# Altium footprint library Leadless.pcbLib: 37 footprints (part 2 of 3)
Each footprint in its own frame and in the unit in brackets; x right, y up, seen from the top. Pads: shape width x height; smd on the part's side, far side on the other; paste and mask are expansions set on the pad; w line width, h text height; cw(c..) or ccw(c..) is an arc to the next point about the centre after c.
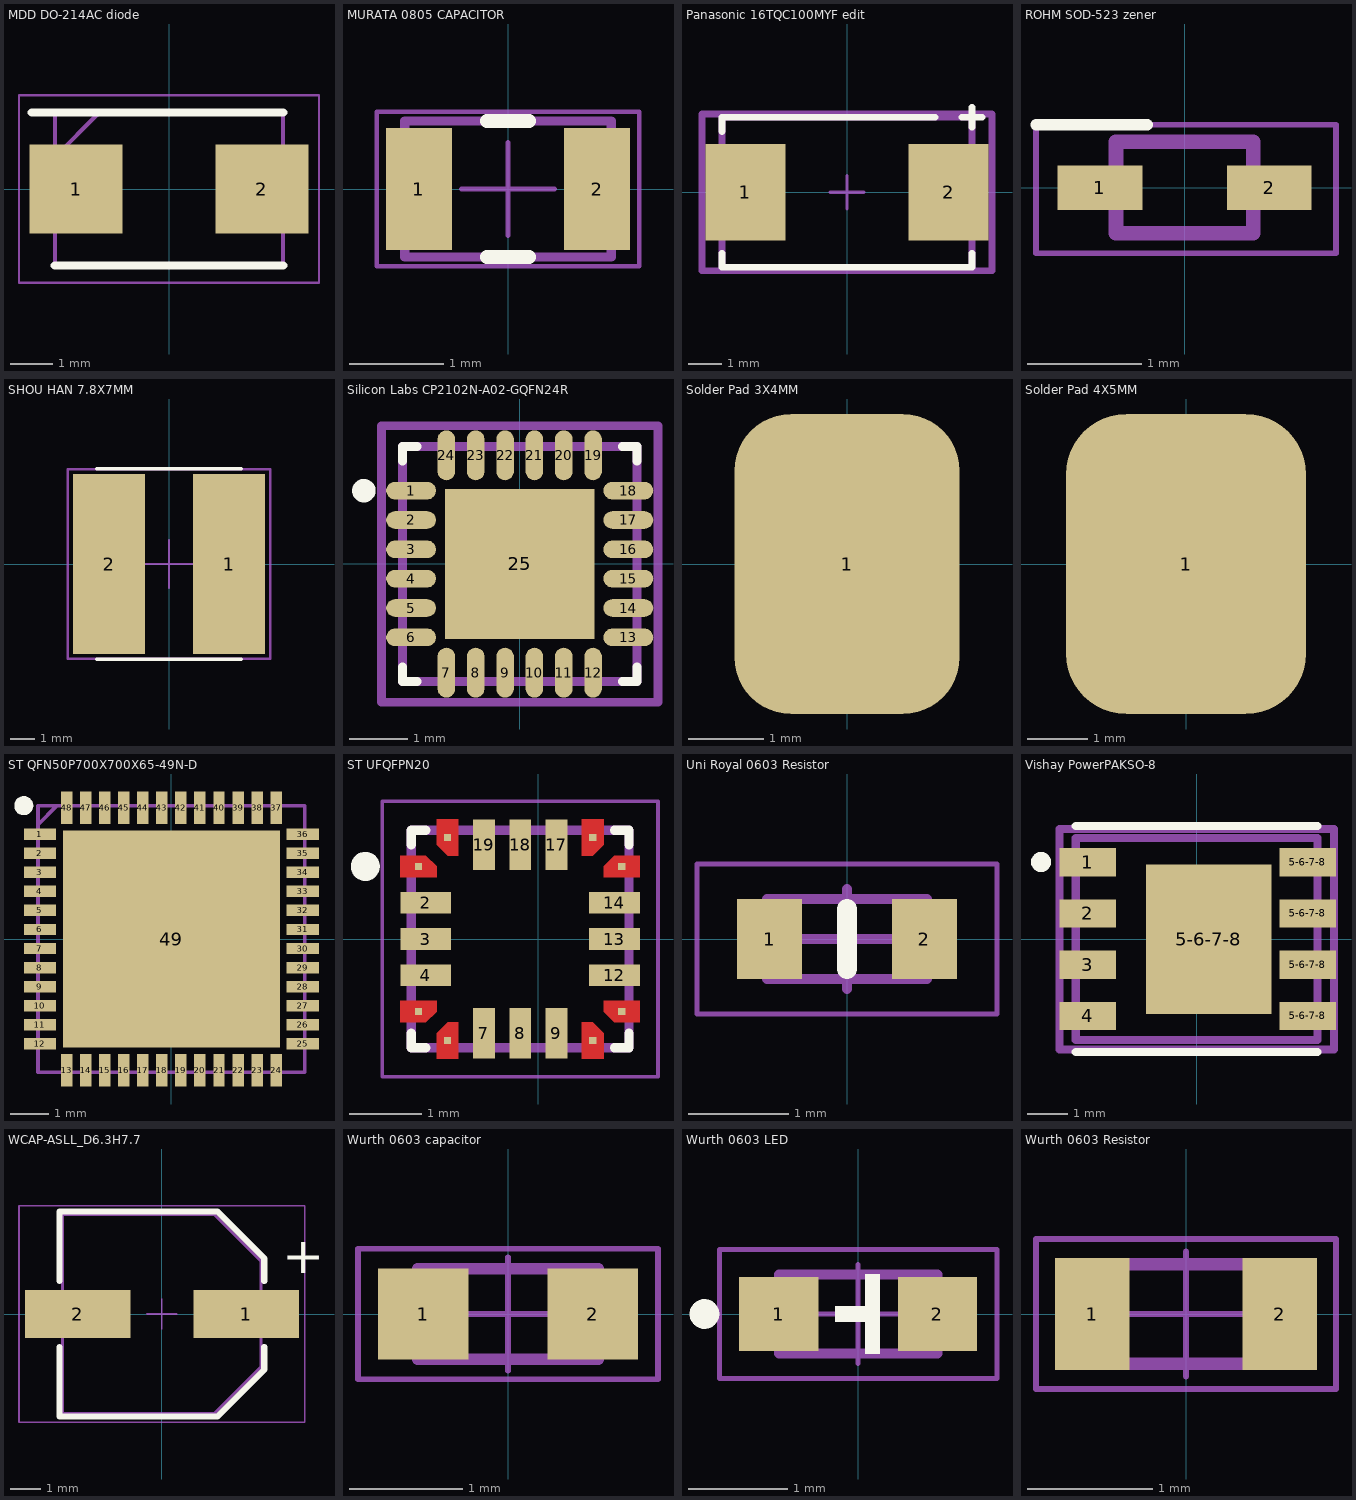
[diagram p1: the footprints below, top view; thin cyan lines are the x and y axes]

## MDD DO-214AC diode [mm]
pads (2):
  rect 2.2x2.1 smd: 1(-2.2,0) 2(2.2,0)
Top Overlay:
  lines w0.2: -3.25,1.81 2.7,1.81 ; -2.7,-1.81 2.7,-1.81
Mechanical 15:
  lines w0.1: -2.7,0.76 -1.65,1.81 ; -2.7,-1.81 -2.7,1.81 2.7,1.81 2.7,-1.81 -2.7,-1.81
Bottom Assembly:
  lines w0.05: -3.55,-2.22 -3.55,2.22 3.55,2.22 3.55,-2.22 -3.55,-2.22
3D body "SS34.stp": height 2.44, standoff 0, extent -2.7,-1.81 2.7,1.81

## MURATA 0805 CAPACITOR [mm]
pads (2):
  rect 0.7x1.3 smd paste+0 mask+0: 1(-0.95,0) 2(0.95,0)
Top Overlay:
  lines w0.15: -0.225,-0.725 0.225,-0.725 ; -0.225,0.725 0.225,0.725
Top Courtyard:
  lines w0.05: -1.4,-0.825 -1.4,0.825 1.4,0.825 1.4,-0.825 -1.4,-0.825
Top Component Center:
  lines w0.05: -0.5,0 0.5,0 ; 0,-0.5 0,0.5
Top Component Outline:
  lines w0.1: -1.1,-0.725 1.1,-0.725 1.1,0.725 -1.1,0.725 -1.1,-0.725
Top Designator (Mech14):
  text ".Designator" at -2.2,-0.283 h0.5
3D body "Cap_Murata_GRM21BC71C106KE11L_eec.STEP": height 0.25, standoff 0, extent -1.4,-0.825 1.4,0.825

## Panasonic 16TQC100MYF edit [mm]
pads (2):
  rect 2.4x2.9 smd paste+0 mask+0: 1(-3.05,0) 2(3.05,0)
Top Overlay:
  lines w0.2: -3.75,-1.825 -3.75,-2.25 3.75,-2.25 3.75,-1.825 ; -3.75,1.825 -3.75,2.25 2.65,2.25 ; 3.45,2.25 4.05,2.25 ; 3.75,1.95 3.75,2.55
Top 3D Body:
  lines w0.2: -3.75,-2.25 3.75,-2.25 3.75,2.25 -3.75,2.25 -3.75,-2.25
Top Courtyard:
  lines w0.2: -4.35,-2.35 4.35,-2.35 4.35,2.35 -4.35,2.35 -4.35,-2.35
Top Component Center:
  lines w0.1: -0.5,0 0.5,0 ; 0,-0.5 0,0.5
Top Assembly:
  lines w0.2: -4.35,-2.35 4.35,-2.35 4.35,2.35 -4.35,2.35 -4.35,-2.35
  text ".Designator" at 0,-0.001 h1
3D body "Cap_Panasonic_16TDC100MYF_eec.STEP": height 0.25, standoff 0, extent -4.35,-2.35 4.35,2.35

## ROHM SOD-523 zener [mm]
pads (2):
  rect 0.74x0.39 smd: 1(-0.74,0) 2(0.74,0)
Top Overlay:
  lines w0.1: -1.3,0.55 -0.325,0.55
Mechanical 13:
  lines w0.127: -0.6,-0.4 -0.6,0.4 0.6,0.4 0.6,-0.4 -0.6,-0.4
Mechanical 15:
  lines w0.05: -1.3,-0.575 -1.3,0.55 1.325,0.55 1.325,-0.575 -1.3,-0.575
3D body "EDZVT2R3.6B.stp": height 0.6, standoff -0.01, extent -0.8,-0.4 0.8,0.4

## SHOU HAN 7.8X7MM [mm]
height 5
pads (2):
  rect 3x7.5 smd paste-0.166 mask+0.1: 1(2.5,0) 2(-2.5,0)
Top Overlay:
  lines w0.152: -3,-3.975 3,-3.975 ; -3,3.975 3,3.975
Top Courtyard:
  lines w0.1: -4.223,-3.95 4.218,-3.95 4.218,3.95 -4.223,3.95 -4.223,-3.95
Top Component Center:
  lines w0.1: -1,0 1,0 ; 0,-1 0,1
Mechanical 15:
  lines w0.003: 3.405,0.127 3.405,0.127

## Silicon Labs CP2102N-A02-GQFN24R [mm]
height 0.8
pads (25):
  rrect100% 0.85x0.3 smd paste-0.018 mask+0.05: 1(-1.851,1.25) 2(-1.851,0.75) 3(-1.851,0.25) 4(-1.851,-0.25) 5(-1.851,-0.75) 6(-1.851,-1.25) 13(1.851,-1.25) 14(1.851,-0.75) 15(1.851,-0.25) 16(1.851,0.25) 17(1.851,0.75) 18(1.851,1.25)
  rrect100% 0.3x0.85 smd paste-0.018 mask+0.05: 7(-1.25,-1.851) 8(-0.75,-1.851) 9(-0.25,-1.851) 10(0.25,-1.851) 11(0.75,-1.851) 12(1.25,-1.851) 19(1.25,1.851) 20(0.75,1.851) 21(0.25,1.851) 22(-0.25,1.851) 23(-0.75,1.851) 24(-1.25,1.851)
  rect 2.55x2.55 smd paste-0.1 mask+0.02: 25(0,0)
Top Overlay:
  circle w0.2: c-2.656,1.25 r0.1
  lines w0.15: -2,-1.75 -2,-2 -1.75,-2 ; -2,1.75 -2,2 -1.75,2 ; 1.75,-2 2,-2 2,-1.75 ; 1.75,2 2,2 2,1.75
Top Paste:
  rectangle: -0.806,-0.806 0.806,0.806
Top 3D Body:
  lines w0.15: -2,-2 2,-2 2,2 -2,2 -2,-2
Top Courtyard:
  lines w0.15: -2.356,-2.356 2.356,-2.356 2.356,2.356 -2.356,2.356 -2.356,-2.356
Top Component Center:
  lines w0.1: -0.5,0 0.5,0 ; 0,-0.5 0,0.5
Top Assembly:
  lines w0.15: -2.356,-2.356 2.356,-2.356 2.356,2.356 -2.356,2.356 -2.356,-2.356
  text ".Designator" at -2.252,-0.226 h1
3D body "IC_Silicon_Labs_CP2102N-A02-GQFN24R_eec.STEP": height 0.25, standoff 0, extent -2.356,-2.356 2.356,2.356

## Solder Pad 3X4MM [mm]
pads (1):
  rrect50% 3x4 smd paste-0.134 mask+0.1: 1(0,0)

## Solder Pad 4X5MM [mm]
pads (1):
  rrect50% 4x5 smd paste-0.174 mask+0.1: 1(0,0)

## ST QFN50P700X700X65-49N-D [mm]
pads (49):
  rect 0.85x0.3 smd paste-0.006 mask+0.1: 1(-3.45,2.75) 2(-3.45,2.25) 3(-3.45,1.75) 4(-3.45,1.25) 5(-3.45,0.75) 6(-3.45,0.25) 7(-3.45,-0.25) 8(-3.45,-0.75) 9(-3.45,-1.25) 10(-3.45,-1.75) 11(-3.45,-2.25) 12(-3.45,-2.75) 25(3.45,-2.75) 26(3.45,-2.25) 27(3.45,-1.75) 28(3.45,-1.25) 29(3.45,-0.75) 30(3.45,-0.25) 31(3.45,0.25) 32(3.45,0.75) 33(3.45,1.25) 34(3.45,1.75) 35(3.45,2.25) 36(3.45,2.75)
  rect 0.3x0.85 smd paste-0.006 mask+0.1: 13(-2.75,-3.45) 14(-2.25,-3.45) 15(-1.75,-3.45) 16(-1.25,-3.45) 17(-0.75,-3.45) 18(-0.25,-3.45) 19(0.25,-3.45) 20(0.75,-3.45) 21(1.25,-3.45) 22(1.75,-3.45) 23(2.25,-3.45) 24(2.75,-3.45) 37(2.75,3.45) 38(2.25,3.45) 39(1.75,3.45) 40(1.25,3.45) 41(0.75,3.45) 42(0.25,3.45) 43(-0.25,3.45) 44(-0.75,3.45) 45(-1.25,3.45) 46(-1.75,3.45) 47(-2.25,3.45) 48(-2.75,3.45)
  rect 5.7x5.7 smd paste-0.072 mask+0.1: 49(0,0)
Top Overlay:
  circle w0.25: c-3.875,3.5 r0.125
Mechanical 13:
  lines w0.1: -3.5,3 -3,3.5 ; -3.5,-3.5 3.5,-3.5 3.5,3.5 -3.5,3.5 -3.5,-3.5
3D body "STM32G051C6U6.stp": height 0.61, standoff 0, extent -3.556,-3.556 3.556,3.556

## ST UFQFPN20 [mm]
height 0.55
pads (20):
  rect 0.1x0.1 smd paste-1 mask+0: 1(-1.65,1) 5(-1.65,-1) 6(-1.25,-1.4) 10(0.75,-1.4) 11(1.15,-1) 15(1.15,1) 16(0.75,1.4) 20(-1.25,1.4)
  rect 0.7x0.3 smd: 2(-1.55,0.5) 3(-1.55,0) 4(-1.55,-0.5) 12(1.05,-0.5) 13(1.05,0) 14(1.05,0.5)
  rect 0.3x0.7 smd: 7(-0.75,-1.3) 8(-0.25,-1.3) 9(0.25,-1.3) 17(0.25,1.3) 18(-0.25,1.3) 19(-0.75,1.3)
Top Layer:
  region: -1.4,-1 -1.55,-1.15 -1.9,-1.15 -1.9,-0.85 -1.4,-0.85
  region: 1.4,0.85 0.9,0.85 0.9,1 1.05,1.15 1.4,1.15
  region: 0.9,-1.3 0.9,-1.65 0.6,-1.65 0.6,-1.15 0.75,-1.15
  region: -1.1,1.15 -1.25,1.15 -1.4,1.3 -1.4,1.65 -1.1,1.65
  region: 0.9,1.3 0.75,1.15 0.6,1.15 0.6,1.65 0.9,1.65
  region: -1.4,1 -1.4,0.85 -1.9,0.85 -1.9,1.15 -1.55,1.15
  region: -1.1,-1.65 -1.4,-1.65 -1.4,-1.3 -1.25,-1.15 -1.1,-1.15
  region: 1.4,-1.15 1.05,-1.15 0.9,-1 0.9,-0.85 1.4,-0.85
Top Overlay:
  circle w0.2: c-2.385,1 r0.1
  lines w0.127: -1.75,-1.3 -1.75,-1.5 -1.55,-1.5 ; -1.75,1.3 -1.75,1.5 -1.55,1.5 ; 1.05,-1.5 1.25,-1.5 1.25,-1.3 ; 1.05,1.5 1.25,1.5 1.25,1.3
Top Paste:
  region: -1.4,-1 -1.55,-1.15 -1.9,-1.15 -1.9,-0.85 -1.4,-0.85
  region: 1.4,0.85 0.9,0.85 0.9,1 1.05,1.15 1.4,1.15
  region: 0.9,-1.3 0.9,-1.65 0.6,-1.65 0.6,-1.15 0.75,-1.15
  region: 0.9,1.3 0.75,1.15 0.6,1.15 0.6,1.65 0.9,1.65
  region: -1.4,1 -1.4,0.85 -1.9,0.85 -1.9,1.15 -1.55,1.15
  region: -1.1,-1.65 -1.4,-1.65 -1.4,-1.3 -1.25,-1.15 -1.1,-1.15
  region: 1.4,-1.15 1.05,-1.15 0.9,-1 0.9,-0.85 1.4,-0.85
  region: -1.1,1.15 -1.25,1.15 -1.4,1.3 -1.4,1.65 -1.1,1.65
Top Solder:
  region: -1.3,-1.05 -1.5,-1.25 -2,-1.25 -2,-0.75 -1.3,-0.75
  region: 1.5,0.75 0.8,0.75 0.8,1.05 1,1.25 1.5,1.25
  region: 1,-1.25 1,-1.75 0.5,-1.75 0.5,-1.05 0.8,-1.05
  region: -1,1.05 -1.3,1.05 -1.5,1.25 -1.5,1.75 -1,1.75
  region: 1,1.25 0.8,1.05 0.5,1.05 0.5,1.75 1,1.75
  region: -1.3,1.05 -1.3,0.75 -2,0.75 -2,1.25 -1.5,1.25
  region: -1,-1.75 -1.5,-1.75 -1.5,-1.25 -1.3,-1.05 -1,-1.05
  region: 1.5,-1.25 1,-1.25 0.8,-1.05 0.8,-0.75 1.5,-0.75
Mechanical 13:
  lines w0.127: -1.75,-1.5 1.25,-1.5 1.25,1.5 -1.75,1.5 -1.75,-1.5
Mechanical 15:
  lines w0.05: -2.15,-1.9 1.65,-1.9 1.65,1.9 -2.15,1.9 -2.15,-1.9
3D body "step_temp.STEP": height 0.6, standoff 0, extent -1.75,-1.5 1.25,1.5

## Uni Royal 0603 Resistor [mm]
height 0.55
pads (2):
  rect 0.65x0.8 smd: 1(-0.775,0) 2(0.775,0)
Top Overlay:
  lines w0.2: 0,-0.3 0,0.3
Top Component Center:
  lines w0.1: -0.5,0 0.5,0 ; 0,-0.5 0,0.5
Mechanical 13:
  lines w0.1: -0.8,-0.4 0.8,-0.4 0.8,0.4 -0.8,0.4 -0.8,-0.4
Mechanical 15:
  lines w0.05: -1.5,-0.75 1.5,-0.75 1.5,0.75 -1.5,0.75 -1.5,-0.75
3D body "0603WAF5101T5E.stp": height 0.55, standoff 0, extent -0.8,-0.4 0.8,0.4

## Vishay PowerPAKSO-8 [mm]
pads (9):
  rect 1.4x0.7 smd paste+0 mask+0: 1(-2.7,1.905) 2(-2.7,0.635) 3(-2.7,-0.635) 4(-2.7,-1.905) 5-6-7-8(2.752,1.905) 5-6-7-8(2.752,-1.905) 5-6-7-8(2.752,-0.635) 5-6-7-8(2.752,0.635)
  rect 3.1x3.7 smd paste+0 mask+0: 5-6-7-8(0.3,0)
Top Overlay:
  circle w0.25: c-3.855,1.91 r0.125
  lines w0.2: -2.995,-2.795 2.995,-2.795 ; -2.995,2.8 2.995,2.8
Top 3D Body:
  lines w0.2: -2.995,-2.5 2.995,-2.5 2.995,2.5 -2.995,2.5 -2.995,-2.5
Top Courtyard:
  lines w0.2: -3.402,-2.73 3.402,-2.73 3.402,2.73 -3.402,2.73 -3.402,-2.73
Top Component Center:
  lines w0.1: -0.5,0 0.5,0 ; 0,-0.5 0,0.5
Top Assembly:
  lines w0.2: -3.402,-2.73 3.402,-2.73 3.402,2.73 -3.402,2.73 -3.402,-2.73
Top Designator (Mech14):
  text ".Designator" at 0,0.188 h1
3D body "Trans_Vishay_SIR880BDP-T1-RE3_eec.STEP": height 0.25, standoff 0, extent -3.402,-2.73 3.402,2.73

## WCAP-ASLL_D6.3H7.7 [mm] "Aluminium Electrolytic V-Chip SMT Capacitors, 6.3x7.7mmSMD,D6.3xL7.7mm"
height 7.7
pads (2):
  rect 3.5x1.6 smd: 1(2.8,0) 2(-2.8,0)
Top Overlay:
  lines w0.2: -3.4,-1.1 -3.4,-3.4 1.85,-3.4 3.4,-1.85 3.4,-1.1 ; -3.4,1.1 -3.4,3.4 1.85,3.4 3.4,1.85 3.4,1.1
  text "+" at 4,1.35 h1.22
Top Courtyard:
  lines w0.05: -4.75,-3.6 -4.75,3.6 4.75,3.6 4.75,-3.6 -4.75,-3.6
Top Component Center:
  lines w0.05: -0.5,0 0.5,0 ; 0,-0.5 0,0.5
Top Component Outline (Mech12):
  lines w0.1: -3.3,-3.3 1.75,-3.3 3.3,-1.75 3.3,1.75 1.75,3.3 -3.3,3.3 -3.3,-3.3
Top Designator (Mech19):
  text ".Designator" at -7.498,-0.5 h1.5
3D body "6.3x7.7x2.2.stp": height 7.7, standoff 0, extent -3.65,-3.3 3.65,3.3

## Wurth 0603 capacitor [mm] "Ceramic Capacitors, body 1.6x0.8mm"
height 0.8
pads (2):
  rect 0.8x0.8 smd: 1(-0.75,0) 2(0.75,0)
Top Courtyard:
  lines w0.05: -1.325,-0.575 1.325,-0.575 1.325,0.575 -1.325,0.575 -1.325,-0.575
Top Component Center:
  lines w0.05: -0.5,0 0.5,0 ; 0,-0.5 0,0.5
Top Component Outline:
  lines w0.1: -0.8,-0.4 0.8,-0.4 0.8,0.4 -0.8,0.4 -0.8,-0.4
Top Designator (Mech14):
  text ".Designator" at -2.499,-0.167 h0.5
3D body "CAPC1608X08N.step": height 0.8, standoff 0, extent -0.8,-0.4 0.8,0.4

## Wurth 0603 LED [mm] "SMD Mono-color Chip LED, body 1.6x0.8mm"
height 0.4
pads (2):
  rect 0.8x0.75 smd: 1(-0.8,0) 2(0.8,0)
Top Overlay:
  circle w0.15: c-1.55,0 r0.075
  region: 0.22,0.4 0.22,-0.4 0.07,-0.4 0.07,-0.08 -0.23,-0.08 -0.23,0.08 0.07,0.08 0.07,0.4
Top Courtyard:
  lines w0.05: -1.4,-0.65 -1.4,0.65 1.4,0.65 1.4,-0.65 -1.4,-0.65
Top Component Center:
  lines w0.05: -0.5,0 0.5,0 ; 0,-0.5 0,0.5
Top Component Outline:
  region: 0.22,0.4 0.22,-0.4 0.07,-0.4 0.07,-0.08 -0.23,-0.08 -0.23,0.08 0.07,0.08 0.07,0.4
  lines w0.1: -0.8,-0.4 -0.8,0.4 0.8,0.4 0.8,-0.4 -0.8,-0.4
Top Designator (Mech14):
  text ".Designator" at -2.499,-0.167 h0.5
3D body "STEP-WL-SMCD-0603-rev1.stp": height 0.42, standoff 0.02, extent -0.8,-0.4 0.8,0.4

## Wurth 0603 Resistor [mm] "Fixed Thick Film, body 1.60 x 0.80 mm"
height 0.45
pads (2):
  rect 0.6x0.9 smd paste-0.028 mask+0.1: 1(-0.75,0) 2(0.75,0)
Top Courtyard:
  lines w0.05: -1.2,-0.6 -1.2,0.6 1.2,0.6 1.2,-0.6 -1.2,-0.6
Top Component Center:
  lines w0.05: -0.5,0 0.5,0 ; 0,-0.5 0,0.5
Top Component Outline:
  lines w0.1: -0.8,-0.4 -0.8,0.4 0.8,0.4 0.8,-0.4 -0.8,-0.4
Top Designator (Mech14):
  text ".Designator" at -2.499,-0.167 h0.5
3D body "WRIS-RSKS_0603.stp": height 0.45, standoff 0, extent -0.8,-0.4 0.8,0.4